# Altium footprint library xNEO-S.PcbLib: 1 footprints
Each footprint in its own frame and in the unit in brackets; x right, y up, seen from the top. Pads: shape width x height; smd on the part's side, far side on the other; paste and mask are expansions set on the pad; w line width, h text height; cw(c..) or ccw(c..) is an arc to the next point about the centre after c.
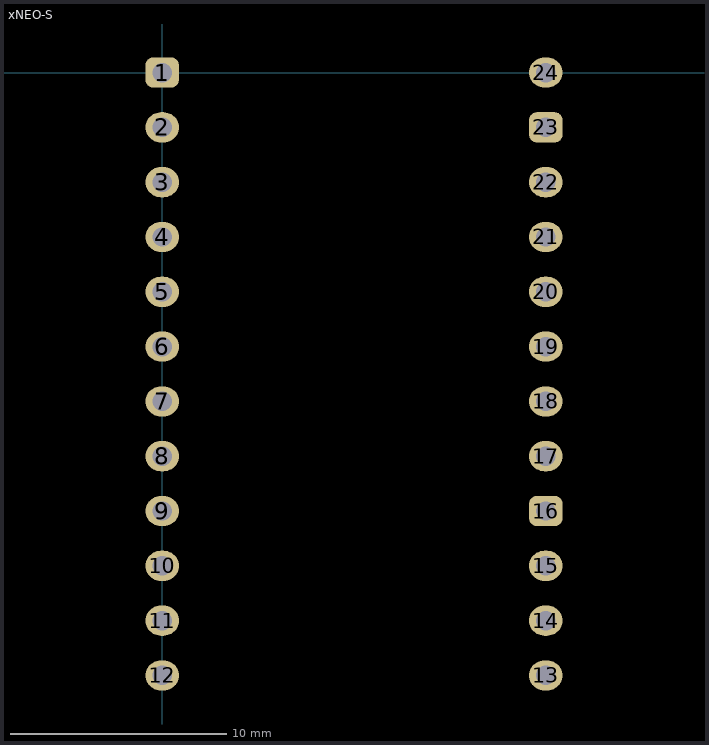
[diagram p0: the footprint, top view; thin cyan lines are the x and y axes]

## xNEO-S [mm] "2.54mm"
pads (24):
  rrect50% 1.55x1.4 hole 0.9 mask+0: 1(0,0) 16(17.78,-20.32) 23(17.78,-2.54)
  oval 1.55x1.4 hole 0.9 mask+0: 2(0,-2.54) 3(0,-5.08) 4(0,-7.62) 5(0,-10.16) 6(0,-12.7) 7(0,-15.24) 8(0,-17.78) 9(0,-20.32) 10(0,-22.86) 11(0,-25.4) 12(0,-27.94) 13(17.78,-27.94) 14(17.78,-25.4) 15(17.78,-22.86) 17(17.78,-17.78) 18(17.78,-15.24) 19(17.78,-12.7) 20(17.78,-10.16) 21(17.78,-7.62) 22(17.78,-5.08) 24(17.78,0)